# EAGLE library part P89LPC90X (library wheat)
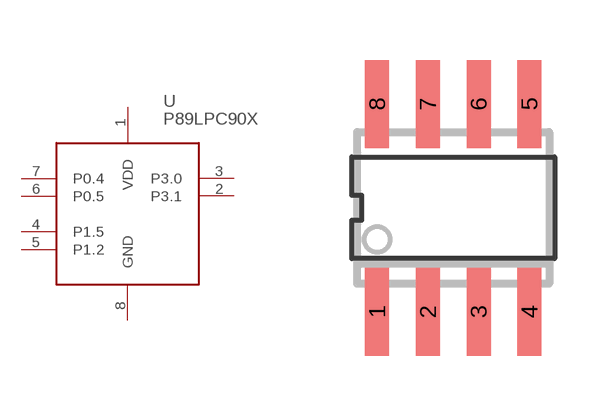
[diagram p147: symbol with the pads of SO8; footprint SO8]

Designator prefix U

## P89LPC90XD  [SO8]
1  VDD  pwr
2  P3.1
3  P3.0
4  P1.5
5  P1.2
6  P0.5
7  P0.4
8  GND  pwr

## Footprint SO8 (pad centres in mm)
SO8
smd 0.6 x 2.2: 1 -1.905,-2.6; 2 -0.635,-2.6; 3 0.635,-2.6; 4 1.905,-2.6; 5 1.905,2.6; 6 0.635,2.6; 7 -0.635,2.6; 8 -1.905,2.6